# Altium integrated library FTDI Embedded Video Engine FT800.IntLib: 2 symbols
Pins are listed as number, name and electrical type; pins without a type are passive.

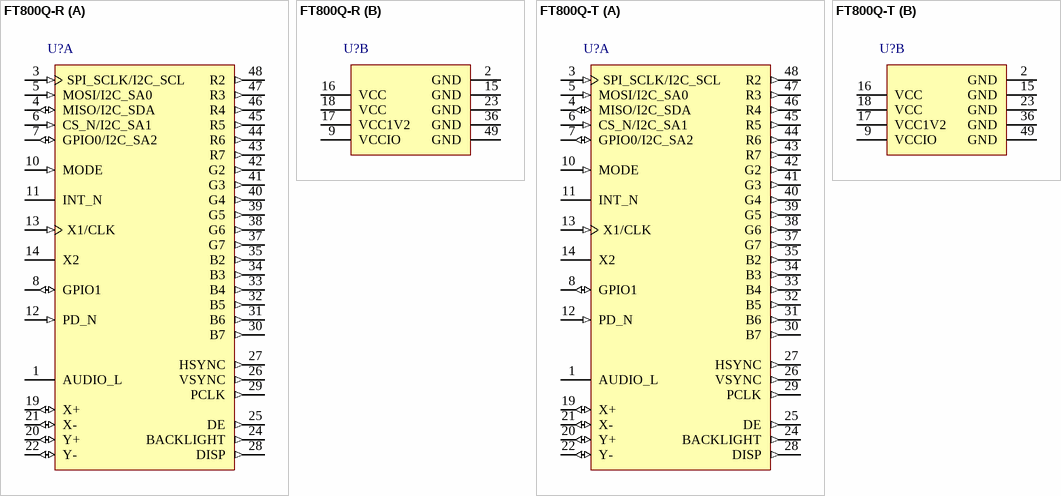
[diagram p0: symbols FT800Q-R to FT800Q-T]

## FT800Q-R
designator U?
FT800 Single Chip Embedded Graphic Controller (Embedded Video Engine), -40 to +85 degC, 48-pin VQFN, Pb-Free, Tape and Reel; Manufacturer: FTDI; PartNumber: FT800Q-R; DatasheetVersion: ver 1.1, Aug-2013; PackageVersion: Aug-13; PackageReference: VQFN-48; PackageDescription: 48-Pin Very Thin Quad Flat No-Lead, 7 x 7 x 0.9 mm Body, 0.5 mm Pitch; ComponentLink1Description: Manufacturer URL; ComponentLink1URL: http://www.ftdichip.com/; ComponentLink2Description: Datasheet; ComponentLink2URL: http://www.ftdichip.com/Support/Documents/DataSheets/ICs/DS_FT800.pdf
footprint VQFN-48_N (QFN, 48-Leads, Body 7.08x7.08mm, Pitch 0.5mm, Thermal Pad 5.36x5.36mm, IPC Medium Density)
footprint VQFN-48_L (QFN, 48-Leads, Body 7.08x7.08mm, Pitch 0.5mm, Thermal Pad 5.36x5.36mm, IPC High Density)
footprint VQFN-48_M (QFN, 48-Leads, Body 7.08x7.08mm, Pitch 0.5mm, Thermal Pad 5.36x5.36mm, IPC Low Density)
part A pins: 1 AUDIO_L (hiz) "Audio PWM out, push-pull output, 16mA sink/source current. Pad powered from pin VCC.", 3 SPI_SCLK/I2C_SCL (in), 4 MISO/I2C_SDA (io), 5 MOSI/I2C_SA0 (in), 6 CS_N/I2C_SA1 (in), 7 GPIO0/I2C_SA2 (io), 8 GPIO1 (io) "General purpose input, output port. Push-pull, three-state output. 3.3V tolerant, 4/8/12/16mA sink/source current. Pad powered from pin VCCIO.", 10 MODE (in) "Host interface SPI(pull low) or I2C(pull up) mode select input, 3.3V tolerant. Pad powered from pin VCCIO.", 11 INT_N (hiz) "Host Interrupt, open drain output, active low, pull up to VCCIO through a 1kOhm ~10kOhm resistor.", 12 PD_N (in) "Power down input, active low, 3.3V tolerant, pull up to VCCIO through 47kOhm resistor and 100nF to ground. Pad powered from pin VCCIO.", 13 X1/CLK (in), 14 X2 "Crystal oscillator output; leave open if not used. Pad powered from pin VCC.", 19 X+ (io) "Connect to X right electrode of 4-wire touch-screen panel. Pad powered from pin VCC.", 20 Y+ (io) "Connect to Y top electrode of 4-wire touch-screen panel. Pad powered from pin VCC.", 21 X- (io) "Connect to X left electrode of 4-wire touch-screen panel. Pad powered from pin VCC.", 22 Y- (io) "Connect to Y bottom electrode of 4-wire touch-screen panel. Pad powered from pin VCC.", 24 BACKLIGHT (out) "LED Backlight brightness PWM control signal, push-pull output, 4/8mA sink/source current. Pad powered from pin VCC.", 25 DE (out) "LCD Data Enable, push-pull output, 4/8mA sink/source current. Pad powered from pin VCC.", 26 VSYNC (out) "LCD Vertical Sync, push-pull output, 4/8mA sink/source current. Pad powered from pin VCC.", 27 HSYNC (out) "LCD Horizontal Sync, push-pull output, 4/8mA sink/source current. Pad powered from pin VCC.", 28 DISP (out) "General purpose output pin for LCD Display Enable, push-pull output, 4/8mA sink/source current. Control by writing to Bit 7 of REG_GPIO register. Pad powered from pin VCC.", 29 PCLK (out) "LCD Pixel Clock, push-pull output, 4/8mA sink/source current. Pad powered from pin VCC.", 30 B7 (out) "Bit 7 of Blue RGB signals, push-pull output, 4/8mA sink/source current. Pad powered from pin VCC.", 31 B6 (out) "Bit 6 of Blue RGB signals, push-pull output, 4/8mA sink/source current. Pad powered from pin VCC.", 32 B5 (out) "Bit 5 of Blue RGB signals, push-pull output, 4/8mA sink/source current. Pad powered from pin VCC.", 33 B4 (out) "Bit 4 of Blue RGB signals, push-pull output, 4/8mA sink/source current. Pad powered from pin VCC.", 34 B3 (out) "Bit 3 of Blue RGB signals, push-pull output, 4/8mA sink/source current. Pad powered from pin VCC.", 35 B2 (out) "Bit 2 of Blue RGB signals, push-pull output, 4/8mA sink/source current. Pad powered from pin VCC.", 37 G7 (out) "Bit 7 of Green RGB signals, push-pull output, 4/8mA sink/source current. Pad powered from pin VCC.", 38 G6 (out) "Bit 6 of Green RGB signals, push-pull output, 4/8mA sink/source current. Pad powered from pin VCC.", 39 G5 (out) "Bit 5 of Green RGB signals, push-pull output, 4/8mA sink/source current. Pad powered from pin VCC.", 40 G4 (out) "Bit 4 of Green RGB signals, push-pull output, 4/8mA sink/source current. Pad powered from pin VCC.", 41 G3 (out) "Bit 3 of Green RGB signals, push-pull output, 4/8mA sink/source current. Pad powered from pin VCC.", 42 G2 (out) "Bit 2 of Green RGB signals, push-pull output, 4/8mA sink/source current. Pad powered from pin VCC.", 43 R7 (out) "Bit 7 of Red RGB signals, push-pull output, 4/8mA sink/source current. Pad powered from pin VCC.", 44 R6 (out) "Bit 6 of Red RGB signals, push-pull output, 4/8mA sink/source current. Pad powered from pin VCC.", 45 R5 (out) "Bit 5 of Red RGB signals, push-pull output, 4/8mA sink/source current. Pad powered from pin VCC.", 46 R4 (out) "Bit 4 of Red RGB signals, push-pull output, 4/8mA sink/source current. Pad powered from pin VCC.", 47 R3 (out) "Bit 3 of Red RGB signals, push-pull output, 4/8mA sink/source current. Pad powered from pin VCC.", 48 R2 (out) "Bit 2 of Red RGB signals, push-pull output, 4/8mA sink/source current. Pad powered from pin VCC."
part B pins: 2 GND (power) "Ground", 9 VCCIO (power) "I/O power supply, connect a 0.1uF decoupling capacitor. Support 1.8V, 2.5V or 3.3V.", 15 GND (power) "Ground", 16 VCC (power) "3.3V power supply input.", 17 VCC1V2 (power) "1.2V regulator output pin. Connect a 4.7uF decoupling capacitor to GND.", 18 VCC (power) "3.3V power supply input.", 23 GND (power) "Ground", 36 GND (power) "Ground", 49 GND (power) "Ground. Exposed thermal pad."

## FT800Q-T
designator U?
FT800 Single Chip Embedded Graphic Controller (Embedded Video Engine), -40 to +85 degC, 48-pin VQFN, Pb-Free, Tape and Reel; Manufacturer: FTDI; PartNumber: FT800Q-T; DatasheetVersion: ver 1.1, Aug-2013; PackageVersion: Aug-13; PackageReference: VQFN-48; PackageDescription: 48-Pin Very Thin Quad Flat No-Lead, 7 x 7 x 0.9 mm Body, 0.5 mm Pitch; ComponentLink1Description: Manufacturer URL; ComponentLink1URL: http://www.ftdichip.com/; ComponentLink2Description: Datasheet; ComponentLink2URL: http://www.ftdichip.com/Support/Documents/DataSheets/ICs/DS_FT800.pdf
footprint VQFN-48_N (QFN, 48-Leads, Body 7.08x7.08mm, Pitch 0.5mm, Thermal Pad 5.36x5.36mm, IPC Medium Density)
footprint VQFN-48_L (QFN, 48-Leads, Body 7.08x7.08mm, Pitch 0.5mm, Thermal Pad 5.36x5.36mm, IPC High Density)
footprint VQFN-48_M (QFN, 48-Leads, Body 7.08x7.08mm, Pitch 0.5mm, Thermal Pad 5.36x5.36mm, IPC Low Density)
part A pins: 1 AUDIO_L (hiz) "Audio PWM out, push-pull output, 16mA sink/source current. Pad powered from pin VCC.", 3 SPI_SCLK/I2C_SCL (in), 4 MISO/I2C_SDA (io), 5 MOSI/I2C_SA0 (in), 6 CS_N/I2C_SA1 (in), 7 GPIO0/I2C_SA2 (io), 8 GPIO1 (io) "General purpose input, output port. Push-pull, three-state output. 3.3V tolerant, 4/8/12/16mA sink/source current. Pad powered from pin VCCIO.", 10 MODE (in) "Host interface SPI(pull low) or I2C(pull up) mode select input, 3.3V tolerant. Pad powered from pin VCCIO.", 11 INT_N (hiz) "Host Interrupt, open drain output, active low, pull up to VCCIO through a 1kOhm ~10kOhm resistor.", 12 PD_N (in) "Power down input, active low, 3.3V tolerant, pull up to VCCIO through 47kOhm resistor and 100nF to ground. Pad powered from pin VCCIO.", 13 X1/CLK (in), 14 X2 "Crystal oscillator output; leave open if not used. Pad powered from pin VCC.", 19 X+ (io) "Connect to X right electrode of 4-wire touch-screen panel. Pad powered from pin VCC.", 20 Y+ (io) "Connect to Y top electrode of 4-wire touch-screen panel. Pad powered from pin VCC.", 21 X- (io) "Connect to X left electrode of 4-wire touch-screen panel. Pad powered from pin VCC.", 22 Y- (io) "Connect to Y bottom electrode of 4-wire touch-screen panel. Pad powered from pin VCC.", 24 BACKLIGHT (out) "LED Backlight brightness PWM control signal, push-pull output, 4/8mA sink/source current. Pad powered from pin VCC.", 25 DE (out) "LCD Data Enable, push-pull output, 4/8mA sink/source current. Pad powered from pin VCC.", 26 VSYNC (out) "LCD Vertical Sync, push-pull output, 4/8mA sink/source current. Pad powered from pin VCC.", 27 HSYNC (out) "LCD Horizontal Sync, push-pull output, 4/8mA sink/source current. Pad powered from pin VCC.", 28 DISP (out) "General purpose output pin for LCD Display Enable, push-pull output, 4/8mA sink/source current. Control by writing to Bit 7 of REG_GPIO register. Pad powered from pin VCC.", 29 PCLK (out) "LCD Pixel Clock, push-pull output, 4/8mA sink/source current. Pad powered from pin VCC.", 30 B7 (out) "Bit 7 of Blue RGB signals, push-pull output, 4/8mA sink/source current. Pad powered from pin VCC.", 31 B6 (out) "Bit 6 of Blue RGB signals, push-pull output, 4/8mA sink/source current. Pad powered from pin VCC.", 32 B5 (out) "Bit 5 of Blue RGB signals, push-pull output, 4/8mA sink/source current. Pad powered from pin VCC.", 33 B4 (out) "Bit 4 of Blue RGB signals, push-pull output, 4/8mA sink/source current. Pad powered from pin VCC.", 34 B3 (out) "Bit 3 of Blue RGB signals, push-pull output, 4/8mA sink/source current. Pad powered from pin VCC.", 35 B2 (out) "Bit 2 of Blue RGB signals, push-pull output, 4/8mA sink/source current. Pad powered from pin VCC.", 37 G7 (out) "Bit 7 of Green RGB signals, push-pull output, 4/8mA sink/source current. Pad powered from pin VCC.", 38 G6 (out) "Bit 6 of Green RGB signals, push-pull output, 4/8mA sink/source current. Pad powered from pin VCC.", 39 G5 (out) "Bit 5 of Green RGB signals, push-pull output, 4/8mA sink/source current. Pad powered from pin VCC.", 40 G4 (out) "Bit 4 of Green RGB signals, push-pull output, 4/8mA sink/source current. Pad powered from pin VCC.", 41 G3 (out) "Bit 3 of Green RGB signals, push-pull output, 4/8mA sink/source current. Pad powered from pin VCC.", 42 G2 (out) "Bit 2 of Green RGB signals, push-pull output, 4/8mA sink/source current. Pad powered from pin VCC.", 43 R7 (out) "Bit 7 of Red RGB signals, push-pull output, 4/8mA sink/source current. Pad powered from pin VCC.", 44 R6 (out) "Bit 6 of Red RGB signals, push-pull output, 4/8mA sink/source current. Pad powered from pin VCC.", 45 R5 (out) "Bit 5 of Red RGB signals, push-pull output, 4/8mA sink/source current. Pad powered from pin VCC.", 46 R4 (out) "Bit 4 of Red RGB signals, push-pull output, 4/8mA sink/source current. Pad powered from pin VCC.", 47 R3 (out) "Bit 3 of Red RGB signals, push-pull output, 4/8mA sink/source current. Pad powered from pin VCC.", 48 R2 (out) "Bit 2 of Red RGB signals, push-pull output, 4/8mA sink/source current. Pad powered from pin VCC."
part B pins: 2 GND (power) "Ground", 9 VCCIO (power) "I/O power supply, connect a 0.1uF decoupling capacitor. Support 1.8V, 2.5V or 3.3V.", 15 GND (power) "Ground", 16 VCC (power) "3.3V power supply input.", 17 VCC1V2 (power) "1.2V regulator output pin. Connect a 4.7uF decoupling capacitor to GND.", 18 VCC (power) "3.3V power supply input.", 23 GND (power) "Ground", 36 GND (power) "Ground", 49 GND (power) "Ground. Exposed thermal pad."